# Altium footprint library PowerFLAT™ 3.3 x 3.3.PcbLib: 1 footprints
Each footprint in its own frame and in the unit in brackets; x right, y up, seen from the top. Pads: shape width x height; smd on the part's side, far side on the other; paste and mask are expansions set on the pad; w line width, h text height; cw(c..) or ccw(c..) is an arc to the next point about the centre after c.
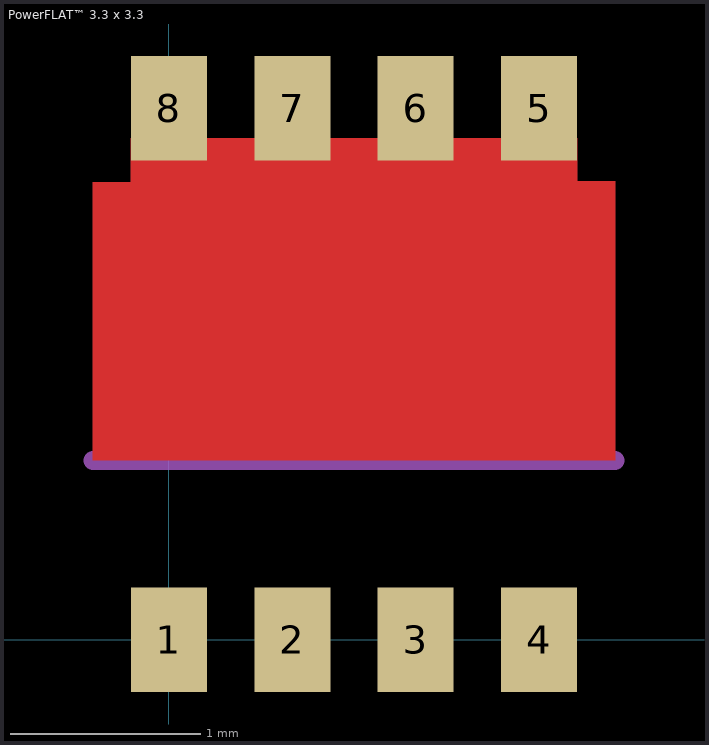
[diagram p0: the footprint, top view; thin cyan lines are the x and y axes]

## PowerFLAT™ 3.3 x 3.3 [mm]
height 1
pads (8):
  rect 0.4x0.55 smd: 1(0,0) 2(0.65,0) 3(1.3,0) 4(1.95,0) 5(1.95,2.8) 6(1.3,2.8) 7(0.65,2.8) 8(0,2.8)
Top Layer:
  region: 2.35,0.945 -0.4,0.945 -0.4,2.41 -0.2,2.41 -0.2,2.64 2.15,2.64 2.15,2.415 2.35,2.415
Mechanical 1:
  region: 2.35,0.945
  lines w0.1: -0.4,0.945 2.35,0.945
3D body "PowerFLAT.STEP": height 0.8, standoff 0, extent -0.68,-0.245 2.62,3.055